# Altium footprint library SFE-Custom-Footprints.PcbLib: 154 footprints (part 10 of 10)
Each footprint in its own frame and in the unit in brackets; x right, y up, seen from the top. Pads: shape width x height; smd on the part's side, far side on the other; paste and mask are expansions set on the pad; w line width, h text height; cw(c..) or ccw(c..) is an arc to the next point about the centre after c.
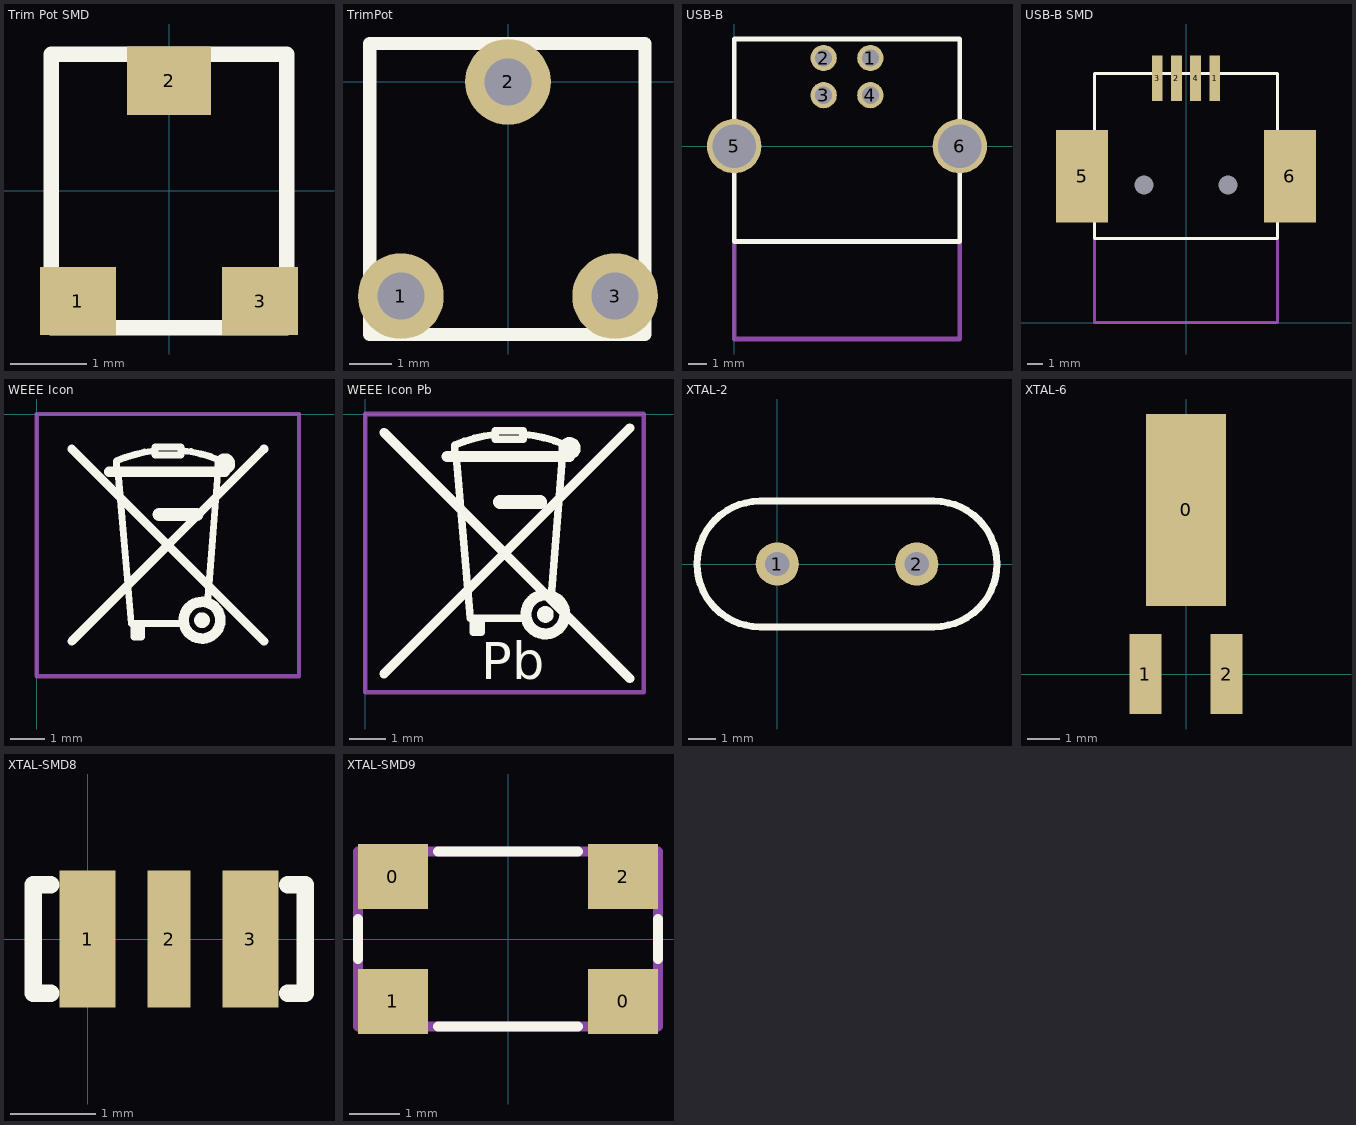
[diagram p9: the footprints below, top view; thin cyan lines are the x and y axes]

## Trim Pot SMD [mm]
pads (3):
  rect 1x0.9 smd: 1(-1.2,-1.45) 3(1.2,-1.45)
  rect 1.1x0.9 smd: 2(0,1.45)
Top Overlay:
  lines w0.203: -1.55,-1.8 -1.55,1.8 1.55,1.8 1.55,-1.8 -1.55,-1.8

## TrimPot [mm]
pads (3):
  round 2 hole 1.1: 1(-2.5,-5) 2(0,0) 3(2.5,-5)
Top Overlay:
  lines w0.305: -3.226,-5.9 -3.226,0.9 ; -3.2,-5.9 3.2,-5.9 3.2,0.9 -3.2,0.9

## USB-B [mil]
pads (6):
  round 55 hole 36: 1(286,185) 2(188,185) 3(188,107) 4(286,107)
  round 114.17 hole 91: 5(0,0) 6(474,0)
Top Overlay:
  lines w10: 0,-200 0,225 474,225 474,-200 0,-200
Mechanical 1:
  lines w10: 0,-200 0,-405 474,-405 474,-200

## USB-B SMD [mm]
pads (8):
  round 0 hole 1.25: 0(-2.75,9) 0(2.75,9)
  rect 0.7x3 smd: 1(1.875,16) 2(-0.625,16) 3(-1.875,16) 4(0.625,16)
  rect 3.4x6.04 smd: 5(-6.8,9.58) 6(6.8,9.58)
Top Overlay:
  lines w0.203: -6,5.5 6,5.5 6,16.3 -6,16.3 -6,5.5
Mechanical 1:
  lines w0.203: -6,5.5 -6,0 6,0 6,5.5

## WEEE Icon [mil]
Top Overlay:
  circle w10: c189,-236 r4
  circle w12: c215,-57 r6
  circle w12: c189,-236 r21
  lines w8: 91.14,-64.14 91.14,-53.63 cw(c151.3,-192.24) 134.45,-42.08 ; 93,-66 108,-240 165,-240 ; 111,-241 111,-255 120,-255 120,-240 ; 114,-255 114,-240 ; 164.67,-41.73 cw(c151.3,-192.24) 209.29,-52.71 ; 196,-210 207,-68 ; 135,-47 165,-47 165,-38 135,-38 135,-47
  lines w10: 40,-260 260,-40 ; 40,-40 260,-260 ; 91.14,-64.14 93,-66
  lines w12: 83,-66 215,-66
  lines w15: 140,-115 183,-115
Mechanical 1:
  lines w5: 0,-300 0,0 300,0 300,-300 0,-300

## WEEE Icon Pb [mil]
Top Overlay:
  circle w12: c194,-216 r21
  circle w12: c220,-37 r6
  circle w10: c194,-216 r4
  lines w8: 96.14,-44.14 96.14,-33.63 cw(c156.3,-172.24) 139.45,-22.08 ; 98,-46 113,-220 170,-220 ; 116,-221 116,-235 125,-235 125,-220 ; 119,-235 119,-220 ; 169.67,-21.73 cw(c156.3,-172.24) 214.29,-32.71 ; 201,-190 212,-48 ; 140,-27 140,-18 170,-18 170,-27 140,-27
  lines w10: 20,-280 285,-15 ; 20,-20 285,-285 ; 96.14,-44.14 98,-46
  lines w12: 88,-46 220,-46
  lines w15: 145,-95 188,-95
  text "Pb" at 125,-286 h40
Mechanical 1:
  lines w5: 0,-300 300,-300 300,0 0,0 0,-300

## XTAL-2 [mil]
pads (2):
  round 62 hole 35: 1(0,0) 2(200,0)
Top Overlay:
  lines w10: -25,-90 cw(c-25,0) -25,90 225,90 cw(c225,0) 225,-90 -25,-90

## XTAL-6 [mm]
pads (3):
  rect 2.5x6 smd: 0(0,5.125)
  rect 1x2.5 smd: 1(-1.27,0) 2(1.27,0)

## XTAL-SMD8 [mm]
pads (3):
  rect 0.65x1.6 smd: 1(0,0) 3(1.9,0)
  rect 0.5x1.6 smd: 2(0.95,0)
Top Overlay:
  lines w0.203: -0.432,-0.635 -0.635,-0.635 -0.635,0.635 -0.432,0.635 ; 2.337,-0.635 2.54,-0.635 2.54,0.635 2.337,0.635

## XTAL-SMD9 [mm]
pads (4):
  rect 1.4x1.3 smd: 0(-2.3,1.25) 0(2.3,-1.25) 1(-2.3,-1.25) 2(2.3,1.25)
Top Overlay:
  lines w0.203: -3,-0.4 -3,0.4 ; -1.4,-1.75 1.4,-1.75 ; -1.4,1.75 1.4,1.75 ; 3,-0.4 3,0.4
Mechanical 1:
  lines w0.203: -3,-1.75 -3,1.75 3,1.75 3,-1.75 -3,-1.75